# EAGLE library part TEENSY4.1 (library Phils teensy)
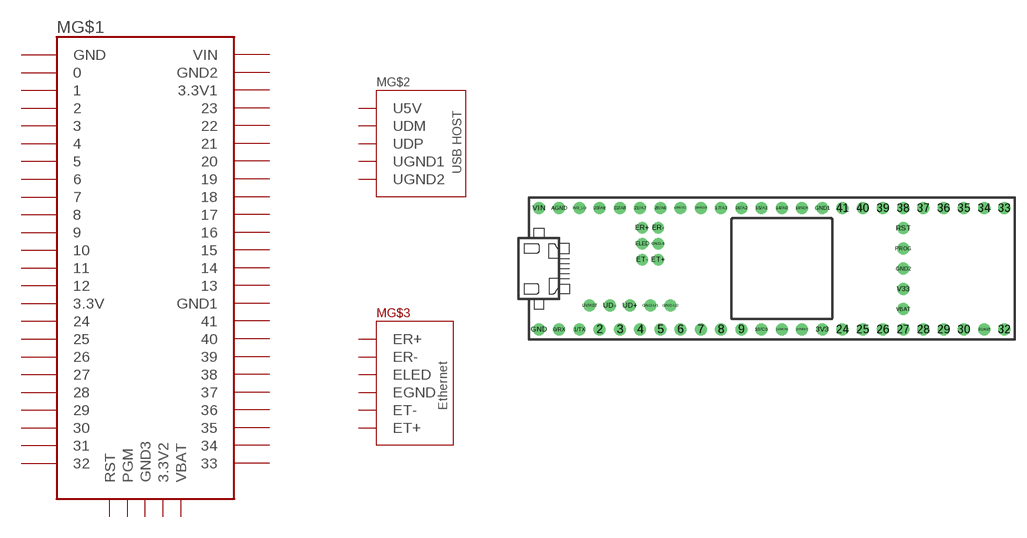
[diagram p4: symbol with the pads of TEENSY4.1; footprint TEENSY4.1]

Designator prefix M; gates G$2=T41USBHOST G$3=T41ETHERNET G$1=TEENSY4.1

## TEENSY4.1  [TEENSY4.1]
0/RX  G$1:0
1/TX  G$1:1
2  G$1:2
3  G$1:3
3V3  G$1:3.3V
3V3_LO  G$1:3.3V1
4  G$1:4
5  G$1:5
6  G$1:6
7  G$1:7
8  G$1:8
9  G$1:9
10/CS  G$1:10
11/MOSI  G$1:11
12/MISO  G$1:12
13/SCK  G$1:13
14/A0  G$1:14
15/A1  G$1:15
16/A2  G$1:16
17/A3  G$1:17
18/A4/SDA  G$1:18
19/A5/SCL  G$1:19
20/A6  G$1:20
21/A7  G$1:21
22/A8  G$1:22
23/A9  G$1:23
24  G$1:24
25  G$1:25
26  G$1:26
27  G$1:27
28  G$1:28
29  G$1:29
30  G$1:30
31/A12  G$1:31
32  G$1:32
33  G$1:33
34  G$1:34
35  G$1:35
36  G$1:36
37  G$1:37
38  G$1:38
39  G$1:39
40  G$1:40
41  G$1:41
AGND  G$1:GND2
ELED  G$3:ELED
ER+  G$3:ER+
ER-  G$3:ER-
ET+  G$3:ET-
ET-  G$3:ET+
GND  G$1:GND
GND1  G$1:GND1
GND2  G$1:GND3
GND-E  G$3:EGND
GND-U1  G$2:UGND1
GND-U2  G$2:UGND2
PROG  G$1:PGM
RST  G$1:RST
UD+  G$2:UDP
UD-  G$2:UDM
UVHST  G$2:U5V
V33  G$1:3.3V2
VBAT  G$1:VBAT
VIN  G$1:VIN

## Footprint TEENSY4.1 (pad centres in mm)
drill 1: 0/RX -26.67,-7.62; 1/TX -24.13,-7.62; 2 -21.59,-7.62; 3 -19.05,-7.62; 3V3 6.35,-7.62; 3V3_LO -24.13,7.62; 4 -16.51,-7.62; 5 -13.97,-7.62; 6 -11.43,-7.62; 7 -8.89,-7.62; 8 -6.35,-7.62; 9 -3.81,-7.62; 10/CS -1.27,-7.62; 11/MOSI 1.27,-7.62; 12/MISO 3.81,-7.62; 13/SCK 3.81,7.62; 14/A0 1.27,7.62; 15/A1 -1.27,7.62; 16/A2 -3.81,7.62; 17/A3 -6.35,7.62; 18/A4/SDA -8.89,7.62; 19/A5/SCL -11.43,7.62; 20/A6 -13.97,7.62; 21/A7 -16.51,7.62; 22/A8 -19.05,7.62; 23/A9 -21.59,7.62; 24 8.89,-7.62; 25 11.43,-7.62; 26 13.97,-7.62; 27 16.51,-7.62; 28 19.05,-7.62; 29 21.59,-7.62; 30 24.13,-7.62; 31/A12 26.67,-7.62; 32 29.21,-7.62; 33 29.21,7.62; 34 26.67,7.62; 35 24.13,7.62; 36 21.59,7.62; 37 19.05,7.62; 38 16.51,7.62; 39 13.97,7.62; 40 11.43,7.62; 41 8.89,7.62; AGND -26.67,7.62; GND -29.21,-7.62; GND1 6.35,7.62; GND2 16.51,0; GND-U1 -15.24,-4.62; GND-U2 -12.7,-4.62; PROG 16.51,2.54; RST 16.51,5.08; UD+ -17.78,-4.62; UD- -20.32,-4.62; UVHST -22.86,-4.62; V33 16.51,-2.54; VBAT 16.51,-5.08; VIN -29.21,7.62
drill 0.9: ELED -16.24,3.12; ER+ -16.24,5.12; ER- -14.24,5.12; ET+ -14.24,1.12; ET- -16.24,1.12; GND-E -14.24,3.12